# Altium integrated library Frequency.IntLib: 18 symbols
Pins are listed as number, name and electrical type; pins without a type are passive.

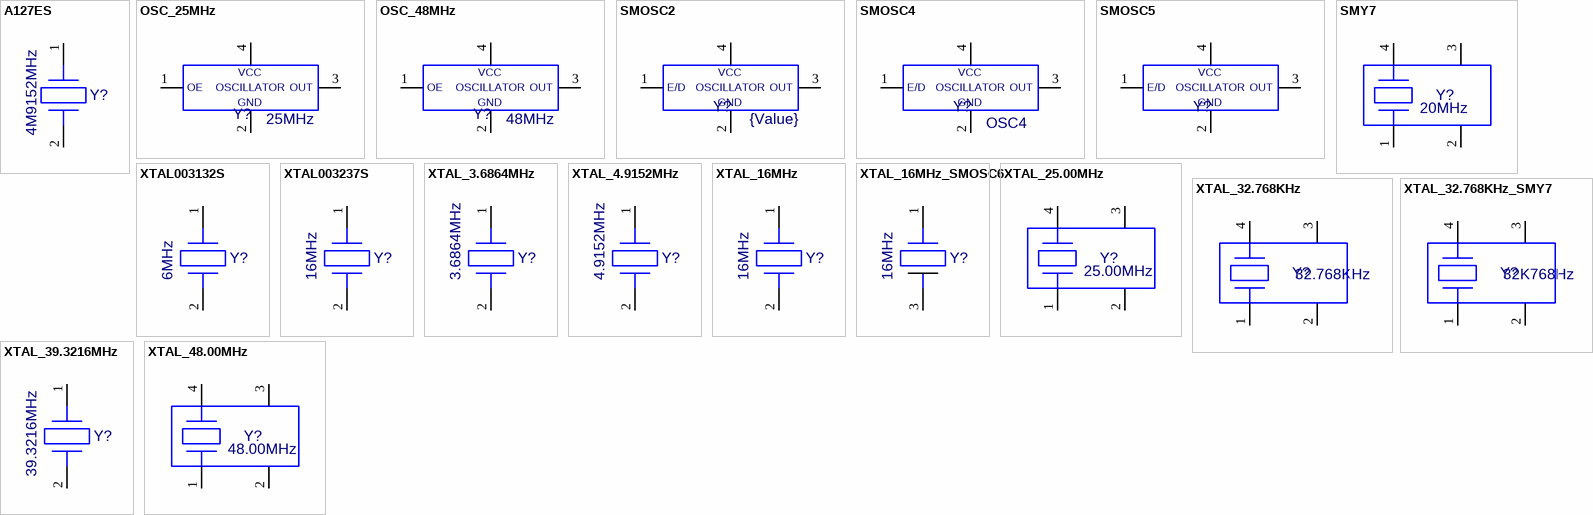
[diagram p0: symbols A127ES to XTAL_48.00MHz]

## A127ES
designator Y?, comment value 4M9152MHz  (hidden comment: 70648-178)
Crystal, A127E, 4.9152MHz; ECAD_Revision: 1; Librarian: UK; PartNumber: 70648-178; Item: *
footprint SMY49
pins: 1, 2

## OSC_25MHz
designator Y?, comment value 25MHz  (hidden comment: 60196-0024)
Oscillator, 25MHz; ECAD_Revision: 1; Librarian: US; PartNumber: 60196-0024; Item: *; HelpURL: K:\ACCELEDA\PDF Spec Files\Crystal\SG636.pdf
footprint SMOSC1
pins: 1 OE, 2 GND, 3 OUT, 4 VCC
text: OSCILLATOR

## OSC_48MHz
designator Y?, comment value 48MHz  (hidden comment: 60196-0016)
Oscillator, 48MHz; ECAD_Revision: 1; Librarian: US; PartNumber: 60196-0016; Item: *; HelpURL: K:\ACCELEDA\PDF Spec Files\Crystal\SG8002JC.pdf
footprint SMOSC1
pins: 1 OE, 2 GND, 3 OUT, 4 VCC
text: OSCILLATOR

## SMOSC2
designator Y?  value {Value}
Oscillator,; ECAD_Revision: 1; HelpURL: K:\ACCELEDA\PDF Spec Files\Crystal\F510L.PDF; Item: *
footprint SMOSC2
pins: 1 E/D, 2 GND, 3 OUT, 4 VCC
text: OSCILLATOR

## SMOSC4
designator Y?  value OSC4
Oscillator,; ECAD_Revision: 1; Librarian: US; Item: *
footprint SMOSC4
pins: 1 E/D, 2 GND, 3 OUT, 4 VCC
text: OSCILLATOR

## SMOSC5
designator Y?
Oscillator,; ECAD_Revision: 1; Librarian: US; Item: *
footprint SMOSC5
pins: 1 E/D, 2 GND, 3 OUT, 4 VCC
text: OSCILLATOR

## SMY7
designator Y?, comment value 20MHz  (hidden comment: 70648-173)
Crystal, 20.00MHz; Tolerance: 50PPM; ECAD_Revision: 1; Librarian: UK; PartNumber: 70648-173; Item: *
footprint SMY6
pins: 1, 2, 3, 4

## XTAL003132S
designator Y?, comment value 6MHz  (hidden comment: 70648-150)
Crystal, 6 MHz; ECAD_Revision: 1; Librarian: UK; PartNumber: 70648-150; Item: *
footprint SMY49
pins: 1, 2

## XTAL003237S
designator Y?, comment value 16MHz  (hidden comment: 70648-173)
Crystal, 16 MHz; ECAD_Revision: 1; Librarian: UK; PartNumber: 70648-173; Item: *
footprint SMY49
pins: 1, 2

## XTAL_3.6864MHz
designator Y?, comment value 3.6864MHz  (hidden comment: 48628-0035)
Crystal, 3.6864 MHz; ECAD_Revision: 1; Librarian: US; PartNumber: 48628-0035; HelpURL: K:\ACCELEDA\PDF Spec Files\Crystal\HC49.pdf; Item: *
footprint SMY49
pins: 1, 2

## XTAL_4.9152MHz
designator Y?, comment value 4.9152MHz  (hidden comment: 48628-0043)
Crystal, 4.9152 MHz; ECAD_Revision: 1; Librarian: US; PartNumber: 48628-0043; HelpURL: K:\ACCELEDA\PDF Spec Files\Crystal\HC49.pdf; Item: *
footprint SMY49
pins: 1, 2

## XTAL_16MHz
designator Y?, comment value 16MHz  (hidden comment: AWT25-500097)
Crystal, 16 MHz HCM49; ECAD_Revision: 1; Librarian: US; PartNumber: AWT25-500097; HelpURL: K:\ACCELEDA\PDF Spec Files\Crystal\HC49.pdf; Item: *
footprint SMY49
pins: 1, 2

## XTAL_16MHz_SMOSC6
designator Y?, comment value 16MHz  (hidden comment: AWT25-000230)
Crystal, 16 MHz 12SMX(B); ECAD_Revision: 1; Librarian: UK; PartNumber: AWT25-000230; Item: *
footprint SMOSC6 (Rev.1)
pins: 1, 2, 3, 4

## XTAL_25.00MHz
designator Y?, comment value 25.00MHz  (hidden comment: 48628-0050)
Crystal, 25.00MHz; ECAD_Revision: 1; Librarian: US; PartNumber: 48628-0050; HelpURL: K:\ACCELEDA\PDF Spec Files\Crystal\FPXLF.pdf; Item: *
footprint SMY6
pins: 1, 2, 3, 4

## XTAL_32.768KHz
designator Y?, comment value 32.768KHz  (hidden comment: 48628-0019)
Crystal, 32.768KHz; ECAD_Revision: 1; Librarian: US; PartNumber: 48628-0019; Item: *; HelpURL: K:\ACCELEDA\PDF Spec Files\Crystal\FSRLF.pdf
footprint SMY4
pins: 1, 2, 3, 4

## XTAL_32.768KHz_SMY7
designator Y?, comment value 32K768Hz  (hidden comment: 70648-169)
Crystal, 32.768KHz; ECAD_Revision: 2; Librarian: UK; PartNumber: 70648-169; Item: *
footprint SMY7 (IQD A103D, 90SMX, 91SMX. Rev. 1)
pins: 1, 2, 3, 4

## XTAL_39.3216MHz
designator Y?, comment value 39.3216MHz  (hidden comment: 48628-0092)
Crystal, 39.3216 MHz; ECAD_Revision: 1; Librarian: US; PartNumber: 48628-0092; HelpURL: K:\ACCELEDA\PDF Spec Files\Crystal\HC49.pdf; Item: *
footprint SMY49
pins: 1, 2

## XTAL_48.00MHz
designator Y?, comment value 48.00MHz  (hidden comment: 48628-0068)
Crystal, 48.00MHz; ECAD_Revision: 1; Librarian: US; PartNumber: 48628-0068; Item: *; HelpURL: K:\ACCELEDA\PDF Spec Files\Crystal\CM309S.pdf
footprint SMY5
pins: 1, 2, 3, 4